# EAGLE library part 24POS(12X2)SCREWTERMINAL_TE-1-796692-2 (library DAQTEST)
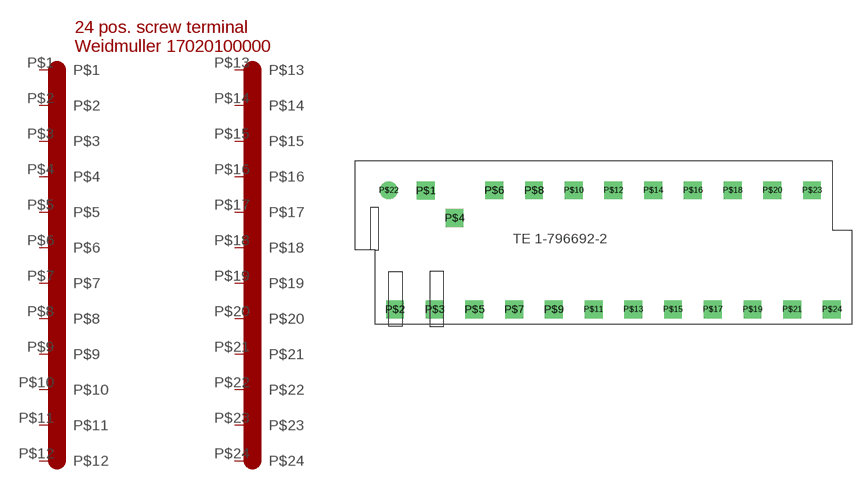
[diagram p9: symbol with the pads of SCREW_TERMINAL_24POS; footprint SCREW_TERMINAL_24POS]

Designator prefix -

## 24POS(12X2)SCREWTERMINAL_TE-1-796692-2  [SCREW_TERMINAL_24POS]
P$1  P$1
P$2  P$2
P$3  P$3
P$4  P$4
P$5  P$5
P$6  P$6
P$7  P$7
P$8  P$8
P$9  P$9
P$10  P$10
P$11  P$11
P$12  P$12
P$13  P$13
P$14  P$14
P$15  P$15
P$16  P$16
P$17  P$17
P$18  P$18
P$19  P$19
P$20  P$20
P$21  P$21
P$22  P$22
P$23  P$23
P$24  P$24

## Footprint SCREW_TERMINAL_24POS (pad centres in mm)
drill 1.524 square: P$1 -16.385,5.04; P$2 -20.32,-10.16; P$3 -15.24,-10.16; P$4 -12.7,1.54; P$5 -10.16,-10.16; P$6 -7.62,5.08; P$7 -5.08,-10.16; P$8 -2.54,5.08; P$9 0,-10.16; P$10 2.54,5.08; P$11 5.08,-10.16; P$12 7.62,5.08; P$13 10.16,-10.16; P$14 12.7,5.08; P$15 15.24,-10.16; P$16 17.78,5.08; P$17 20.32,-10.16; P$18 22.86,5.08; P$19 25.4,-10.16; P$20 27.94,5.08; P$21 30.48,-10.16; P$23 33.02,5.08; P$24 35.56,-10.16
drill 1.524: P$22 -21.11,5.08